# Altium footprint library 电流测量仪仪主控板原理图PCB封装库.PcbLib: 34 footprints (part 1 of 3)
Each footprint in its own frame and in the unit in brackets; x right, y up, seen from the top. Pads: shape width x height; smd on the part's side, far side on the other; paste and mask are expansions set on the pad; w line width, h text height; cw(c..) or ccw(c..) is an arc to the next point about the centre after c.
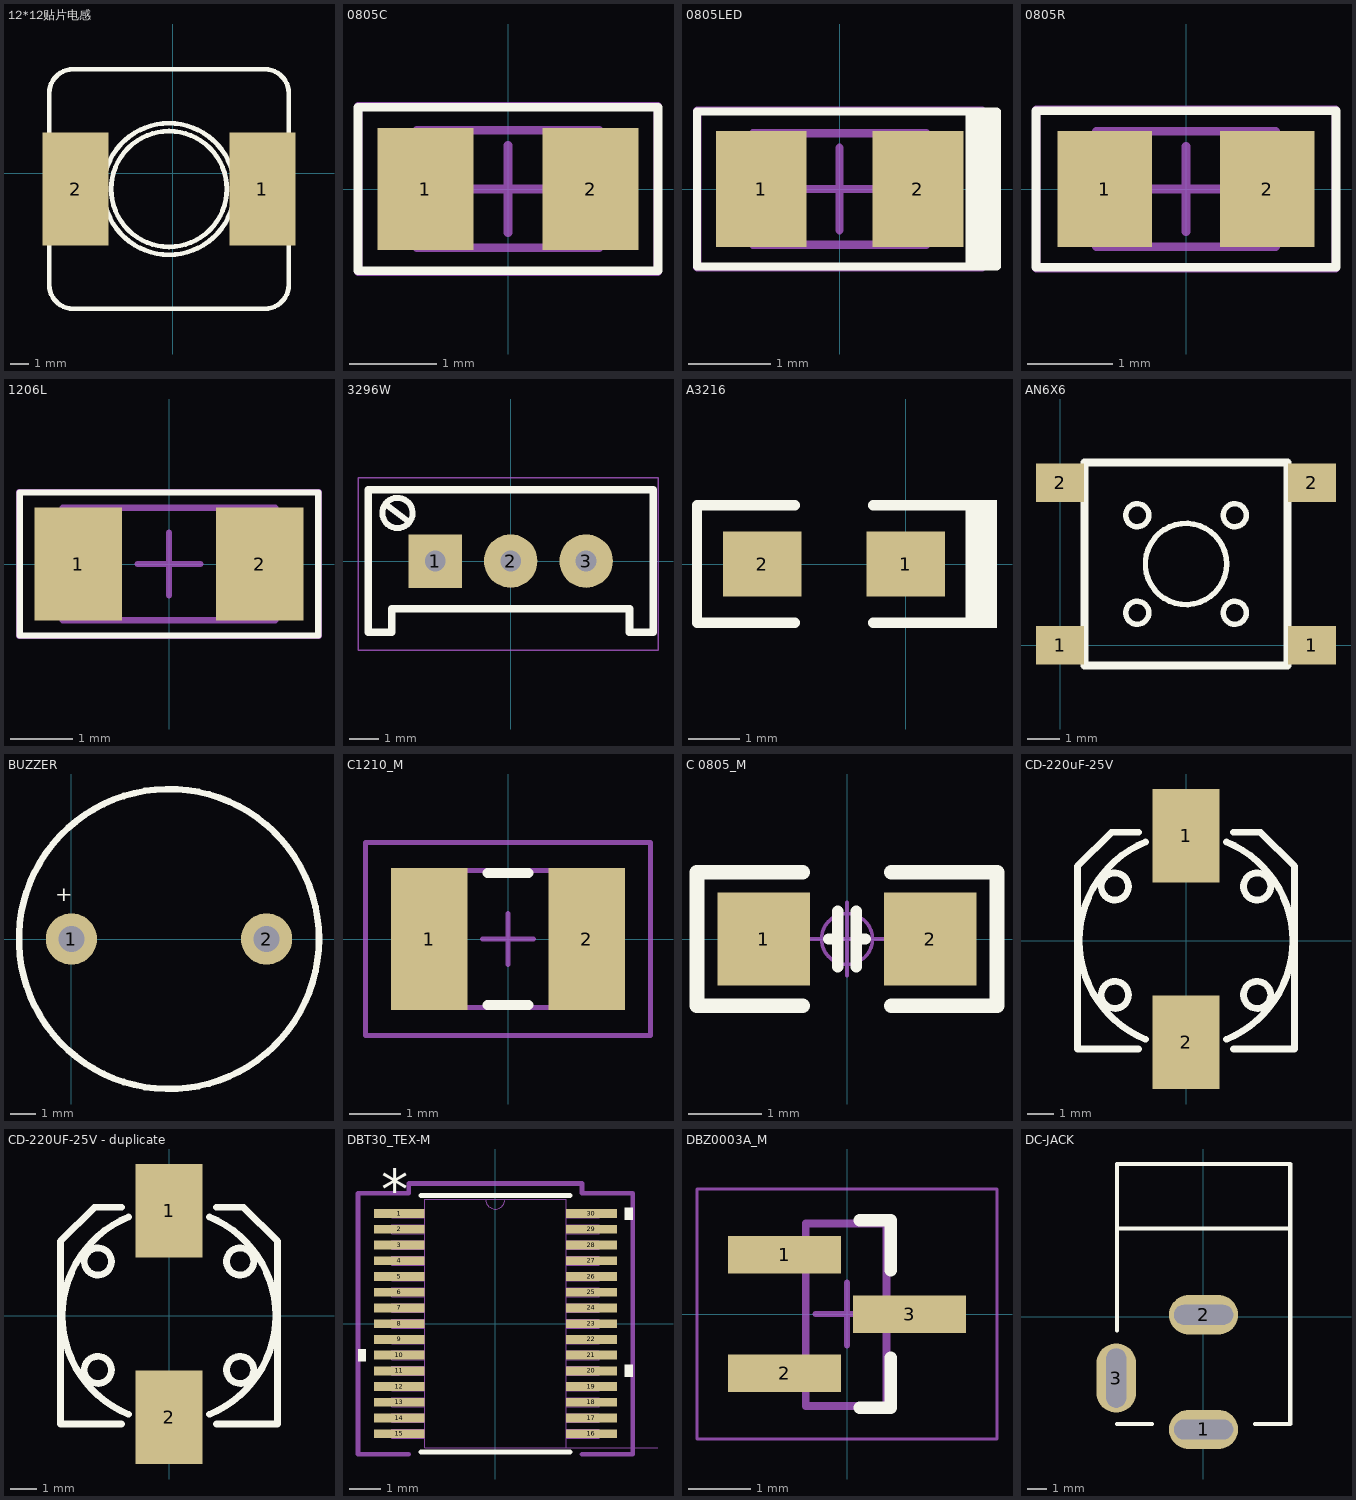
[diagram p0: the footprints below, top view; thin cyan lines are the x and y axes]

## 12*12贴片电感 [mm]
height 0.55
pads (2):
  rect 3.5x6 smd: 1(4.75,-0.838) 2(-5.156,-0.838)
Top Overlay:
  circle w0.254: c-0.203,-0.838 r3.069
  circle w0.254: c-0.203,-0.838 r3.487
  lines w0.254: -6.553,-5.918 ccw(c-5.283,-5.918) -5.283,-7.188 4.877,-7.188 ccw(c4.877,-5.918) 6.147,-5.918 6.147,4.242 ccw(c4.877,4.242) 4.877,5.512 -5.283,5.512 ccw(c-5.283,4.242) -6.553,4.242 -6.553,-5.918

## 0805C [mm] "Chip Capacitor, 2-Leads, Body 2.0x1.3mm, IPC Medium Density"
height 1.2
pads (2):
  rect 1.1x1.4 smd: 1(-0.95,0) 2(0.95,0)
Top Overlay:
  lines w0.1: -1.727,-0.94 1.727,-0.94 1.727,0.94 -1.727,0.94 -1.727,-0.94
Mechanical 13:
  lines w0.1: -1.05,-0.675 -1.05,0.675 1.05,0.675 1.05,-0.675 -1.05,-0.675
Mechanical 15:
  lines w0.1: -0.5,0 0.5,0 ; 0,-0.5 0,0.5 ; -1.725,-0.95 -1.725,0.95 1.725,0.95 1.725,-0.95 -1.725,-0.95
3D body: height 1.2, standoff 0, extent -1.05,-0.675 1.05,0.675

## 0805LED [mm] "Chip Led, 2-Leads, Body 2.0x1.3mm, IPC Medium Density"
height 1.2
pads (2):
  rect 1.1x1.4 smd: 1(-0.95,0) 2(0.95,0)
Top Overlay:
  rectangle: 1.526,-0.944 1.907,0.936
  lines w0.1: -1.727,-0.94 1.905,-0.94 1.905,0.94 -1.727,0.94 -1.727,-0.94
Mechanical 13:
  lines w0.1: -1.05,-0.675 -1.05,0.675 1.05,0.675 1.05,-0.675 -1.05,-0.675
Mechanical 15:
  lines w0.1: -0.5,0 0.5,0 ; 0,-0.5 0,0.5 ; -1.725,-0.95 -1.725,0.95 1.725,0.95 1.725,-0.95 -1.725,-0.95
3D body: height 1.2, standoff 0, extent -1.05,-0.675 1.05,0.675

## 0805R [mm] "Chip Resistor, 2-Leads, Body 2.0x1.3mm, IPC Medium Density"
height 1.2
pads (2):
  rect 1.1x1.35 smd: 1(-0.95,0) 2(0.95,0)
Top Overlay:
  lines w0.1: -1.753,-0.914 -1.753,0.914 1.753,0.914 1.753,-0.914 -1.753,-0.914
Mechanical 13:
  lines w0.1: -1.05,-0.675 1.05,-0.675 1.05,0.675 -1.05,0.675 -1.05,-0.675
Mechanical 15:
  lines w0.1: -0.5,0 0.5,0 ; 0,-0.5 0,0.5 ; -1.75,-0.925 1.75,-0.925 1.75,0.925 -1.75,0.925 -1.75,-0.925
3D body: height 1.2, standoff 0, extent -1.05,-0.675 1.05,0.675

## 1206L [mm] "Chip Inductor, 2-Leads, Body 3.2x1.6mm, IPC Medium Density"
height 1.3
pads (2):
  rect 1.4x1.8 smd: 1(-1.45,0) 2(1.45,0)
Top Overlay:
  lines w0.1: -2.388,-1.143 2.388,-1.143 2.388,1.143 -2.388,1.143 -2.388,-1.143
Mechanical 13:
  lines w0.1: -1.7,-0.9 -1.7,0.9 1.7,0.9 1.7,-0.9 -1.7,-0.9
Mechanical 15:
  lines w0.1: -0.5,0 0.5,0 ; 0,-0.5 0,0.5 ; -2.4,-1.15 -2.4,1.15 2.4,1.15 2.4,-1.15 -2.4,-1.15
3D body: height 1.3, standoff 0, extent -1.7,-0.9 1.7,0.9

## 3296W [mm] "Precise Multi-Winding Adjustable Resistor"
height 2.44
pads (3):
  rect 1.8x1.8 hole 0.7: 1(-2.54,0)
  round 1.8 hole 0.7: 2(0,0) 3(2.54,0)
Top Overlay:
  lines w0.2: -3.302,1.651 ccw(c-3.81,1.618) -3.301,1.608
  lines w0.203: -4.2,1.9 -3.464,1.348
  lines w0.254: -4.8,-2.4 -4,-2.4 -4,-1.6 4,-1.6 4,-2.4 4.8,-2.4 4.8,2.4 -4.8,2.4 -4.8,-2.4
Mechanical 15:
  lines w0.05: -5.14,-3 -5.14,2.8 4.96,2.8 4.96,-3 -5.14,-3
3D body: height 11.52, standoff -3.48, extent -4.75,-2.4 4.75,2.4

## A3216 [mil] "1u/25V"
height 21.65
pads (2):
  rect 60x50 smd: 1(0,0) 2(-110,0)
Top Overlay:
  rectangle: 49.98,-49 69.98,49
  lines w8: -85,-45 -160,-45 -160,45 -85,45 ; -25,-45 35,-45 50,-45 50,45 35,45 -25,45

## AN6X6 [mm]
height 8
pads (4):
  rect 1.5x1.2 smd: 1(0,0) 1(7.874,0) 2(0,5.08) 2(7.874,5.08)
Top Overlay:
  circle w0.17: c3.937,2.54 r1.27
  circle w0.17: c5.461,1.016 r0.359
  circle w0.17: c5.461,4.064 r0.359
  circle w0.17: c2.413,4.064 r0.359
  circle w0.17: c2.413,1.016 r0.359
  lines w0.254: 0.762,-0.635 0.762,5.715 7.112,5.715 7.112,-0.635 0.762,-0.635

## BUZZER [mm]
height 9.5
pads (2):
  round 2 hole 1: 1(0,0) 2(7.6,0)
Top Overlay:
  circle w0.254: c3.8,0 r5.842
  text "+" at -0.635,1.27 h1.02

## C1210_M [mm] "Chip Capacitor, Body 3.2x2.5mm, IPC Low Density"
height 1.5
pads (2):
  rect 1.5x2.8 smd: 1(-1.55,0) 2(1.55,0)
Top Overlay:
  lines w0.2: -0.4,-1.3 0.4,-1.3 ; -0.4,1.3 0.4,1.3
Mechanical 13:
  lines w0.1: -1.7,-1.35 -1.7,1.35 1.7,1.35 1.7,-1.35 -1.7,-1.35
Mechanical 15:
  lines w0.1: -0.5,0 0.5,0 ; 0,-0.5 0,0.5 ; -2.8,-1.9 -2.8,1.9 2.8,1.9 2.8,-1.9 -2.8,-1.9
3D body: height 1.5, standoff 0, extent -1.7,-1.35 1.7,1.35

## C 0805_M [mil] "无极性贴片电容"
height 19.68
pads (2):
  rect 50x50 smd: 1(-45,0) 2(45,0)
Top Overlay:
  lines w6: -10,0 -5,0 ; -5,-15 -5,15 ; 5,-15 5,15 ; 5,0 10,0
  lines w8: -24,-36 -81,-36 -81,36 -24,36 ; 24,-36 81,-36 81,36 24,36
Mechanical 15:
  circle w1.97: c0,0 r13.78
  lines w1.97: -19.68,0 19.69,0 ; 0,-19.69 0,19.68
3D body: height 20.08, standoff -0.39, extent -39.37,-24.02 39.37,24.02

## CD-220uF-25V [mm] "CD11"
height 10
pads (2):
  rect 2.5x3.5 smd: 1(0,3.937) 2(0,-3.81)
Top Overlay:
  circle w0.254: c2.667,-2.032 r0.508
  circle w0.254: c-2.667,-2.032 r0.508
  circle w0.254: c-2.667,2.032 r0.508
  circle w0.254: c2.667,2.032 r0.508
  lines w0.254: -1.778,-4.064 -4.064,-4.064 -4.064,2.794 -2.794,4.064 -1.778,4.064 ; -1.523,-3.699 cw(c0,0) -1.523,3.699 ; 1.523,-3.699 ccw(c0,0) 1.523,3.699 ; 1.778,-4.064 4.064,-4.064 4.064,2.794 2.794,4.064 1.778,4.064

## CD-220UF-25V - duplicate [mm]
pads (2):
  rect 2.5x3.5 smd: 1(0,3.937) 2(0,-3.81)
Top Overlay:
  circle w0.254: c2.667,-2.032 r0.508
  circle w0.254: c-2.667,-2.032 r0.508
  circle w0.254: c-2.667,2.032 r0.508
  circle w0.254: c2.667,2.032 r0.508
  lines w0.254: -1.778,-4.064 -4.064,-4.064 -4.064,2.794 -2.794,4.064 -1.778,4.064 ; -1.523,-3.699 cw(c0,0) -1.523,3.699 ; 1.523,-3.699 ccw(c0,0) 1.523,3.699 ; 1.778,-4.064 4.064,-4.064 4.064,2.794 2.794,4.064 1.778,4.064

## DBT30_TEX-M [mil]
height 96.06
pads (30):
  rect 63.5x11 smd paste+0 mask+0: 1(-120.25,137.8) 2(-120.25,118.11) 3(-120.25,98.43) 4(-120.25,78.74) 5(-120.25,59.06) 6(-120.25,39.37) 7(-120.25,19.69) 8(-120.25,0) 9(-120.25,-19.69) 10(-120.25,-39.37) 11(-120.25,-59.06) 12(-120.25,-78.74) 13(-120.25,-98.43) 14(-120.25,-118.11) 15(-120.25,-137.8) 16(120.25,-137.8) 17(120.25,-118.11) 18(120.25,-98.43) 19(120.25,-78.74) 20(120.25,-59.06) 21(120.25,-39.37) 22(120.25,-19.68) 23(120.25,0) 24(120.25,19.69) 25(120.25,39.37) 26(120.25,59.06) 27(120.25,78.74) 28(120.25,98.43) 29(120.25,118.11) 30(120.25,137.8)
Top Overlay:
  region: 162,145.3 172,145.3 172,130.3 162,130.3
  region: 162,-51.56 172,-51.56 172,-66.56 162,-66.56
  region: -162,-31.87 -172,-31.87 -172,-46.87 -162,-46.87
  lines w6: -93.5,-160.5 93.5,-160.5 ; -93.5,160.5 93.5,160.5
  text "*" at -142.75,143.8 h50
Mechanical 7:
  lines w1: 0,-155.5 203.5,-155.5
Mechanical 13:
  lines w0: -12,155.5 ccw(c0,155.5) 12,155.5
  lines w1: -130,-143.3 -88.5,-143.3 -88.5,-132.3 -130,-132.3 -130,-143.3 ; -130,-123.61 -88.5,-123.61 -88.5,-112.61 -130,-112.61 -130,-123.61 ; -130,-103.93 -88.5,-103.93 -88.5,-92.93 -130,-92.93 -130,-103.93 ; -130,-84.24 -88.5,-84.24 -88.5,-73.24 -130,-73.24 -130,-84.24 ; -130,-64.56 -88.5,-64.56 -88.5,-53.56 -130,-53.56 -130,-64.56 ; -130,-44.87 -88.5,-44.87 -88.5,-33.87 -130,-33.87 -130,-44.87 ; -130,-25.19 -88.5,-25.19 -88.5,-14.19 -130,-14.19 -130,-25.19 ; -130,-5.5 -88.5,-5.5 -88.5,5.5 -130,5.5 -130,-5.5 ; -130,14.19 -88.5,14.19 -88.5,25.19 -130,25.19 -130,14.19 ; -130,33.87 -88.5,33.87 -88.5,44.87 -130,44.87 -130,33.87 ; -130,53.56 -88.5,53.56 -88.5,64.56 -130,64.56 -130,53.56 ; -130,73.24 -88.5,73.24 -88.5,84.24 -130,84.24 -130,73.24 ; -130,92.93 -88.5,92.93 -88.5,103.93 -130,103.93 -130,92.93 ; -130,112.61 -88.5,112.61 -88.5,123.61 -130,123.61 -130,112.61 ; -130,132.3 -88.5,132.3 -88.5,143.3 -130,143.3 -130,132.3 ; -88.5,-155.5 -88.5,155.5 88.5,155.5 88.5,-155.5 -88.5,-155.5 ; 88.5,-143.3 130,-143.3 130,-132.3 88.5,-132.3 88.5,-143.3 ; 88.5,-123.61 130,-123.61 130,-112.61 88.5,-112.61 88.5,-123.61 ; 88.5,-103.93 130,-103.93 130,-92.93 88.5,-92.93 88.5,-103.93 ; 88.5,-84.24 130,-84.24 130,-73.24 88.5,-73.24 88.5,-84.24 ; 88.5,-64.56 130,-64.56 130,-53.56 88.5,-53.56 88.5,-64.56 ; 88.5,-44.87 130,-44.87 130,-33.87 88.5,-33.87 88.5,-44.87 ; 88.5,-25.18 130,-25.18 130,-14.18 88.5,-14.18 88.5,-25.18 ; 88.5,-5.5 130,-5.5 130,5.5 88.5,5.5 88.5,-5.5 ; 88.5,14.19 130,14.19 130,25.19 88.5,25.19 88.5,14.19 ; 88.5,33.87 130,33.87 130,44.87 88.5,44.87 88.5,33.87 ; 88.5,53.56 130,53.56 130,64.56 88.5,64.56 88.5,53.56 ; 88.5,73.24 130,73.24 130,84.24 88.5,84.24 88.5,73.24 ; 88.5,92.93 130,92.93 130,103.93 88.5,103.93 88.5,92.93 ; 88.5,112.61 130,112.61 130,123.61 88.5,123.61 88.5,112.61 ; 88.5,132.3 130,132.3 130,143.3 88.5,143.3 88.5,132.3
  text "*" at -86,102.5 h50
Mechanical 15:
  lines w6: -108.5,-163.3 -172,-163.3 -172,163.3 -108.5,163.3 -108.5,175.5 108.5,175.5 108.5,163.3 172,163.3 172,-163.3 108.5,-163.3
3D body: height 10, standoff 0, extent 0,0 10,10

## DBZ0003A_M [mm]
height 2.44
pads (3):
  rect 1.8x0.6 smd paste-0.102 mask+0.051: 1(-1,0.95) 2(-1,-0.95) 3(1,0)
Top Overlay:
  lines w0.2: 0.2,-1.5 0.7,-1.5 0.7,-0.7 ; 0.2,1.5 0.7,1.5 0.7,0.7
Mechanical 13:
  lines w0.127: -1.27,-1.187 -1.27,-0.743 -1.063,-0.743 -1.005,-0.743 -0.814,-0.743 -0.66,-0.743 -0.66,-1.187 -0.814,-1.187 -1.005,-1.187 -1.063,-1.187 -1.27,-1.187 ; -1.27,0.718 -1.27,1.162 -1.063,1.162 -1.005,1.162 -0.814,1.162 -0.66,1.162 -0.66,0.718 -0.814,0.718 -1.005,0.718 -1.063,0.718 -1.27,0.718 ; -0.66,-1.473 -0.66,1.448 0.635,1.448 0.635,-1.473 -0.66,-1.473 ; 0.635,-0.235 0.789,-0.235 0.98,-0.235 1.037,-0.235 1.245,-0.235 1.245,0.21 1.037,0.21 0.98,0.21 0.789,0.21 0.635,0.21 0.635,-0.235
Mechanical 15:
  lines w0.05: -2.4,-2 2.4,-2 2.4,2 -2.4,2 -2.4,-2
  lines w0.1: -0.5,0 0.5,0 ; 0,-0.5 0,0.5
3D body: height 0.25, standoff 0, extent 0,0 0.254,0.254

## DC-JACK [mm]
height 10
pads (3):
  oval 3.5x2 hole 1 slot 3 at 0 deg: 1(0.028,-5.724) 2(0.028,0.093)
  oval 2x3.5 hole 1 slot 3 at 90 deg: 3(-4.4,-3.115)
Top Overlay:
  lines w0.203: -4.366,-5.444 -2.588,-5.444 ; -4.366,-0.695 -4.366,7.738 4.422,7.738 4.422,-5.444 2.644,-5.444 ; -4.366,4.462 4.422,4.462